# Altium schematic symbol library ED_TransformatorsGOST.SchLib: 2 symbols
Pins are listed as number, name and electrical type; pins without a type are passive.

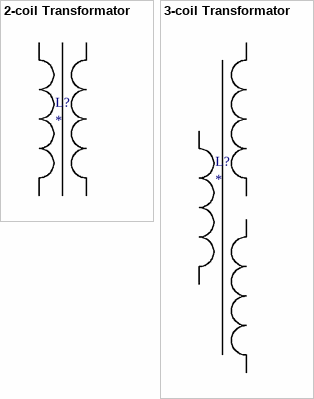
[diagram p0: symbols 2-coil Transformator to 3-coil Transformator]

## 2-coil Transformator
designator L?
Импульсный Трансформатор с двумя обмотками; Manufacturer: a; ManufacturerCountry: b; Order: Трансформатор 10, a, b; Value: 10
pins: 1, 2 4, 3, 4 2

## 3-coil Transformator
designator L?
Импульсный трансформатор с тремя обмотками; Order: Трансформатор *, *, *; Value: *; Manufacturer: *; ManufacturerCountry: *
footprint P0544NLT
pins: 1, 3 6, 4, 5 3, 6 5, 8 2